# Altium schematic symbol library CAP.Schlib: 1 symbol
Pins are listed as number, name and electrical type; pins without a type are passive.

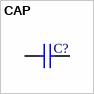
[diagram p0: symbol CAP]

## CAP
designator C?, comment Capacitor  (value not drawn)
pins: 1, 2